# Altium schematic symbol library SCH - MCU - NUVOTON - NUVOTON NANO102ZB1AN.SchLib: 1 symbol
Pins are listed as number, name and electrical type; pins without a type are passive.

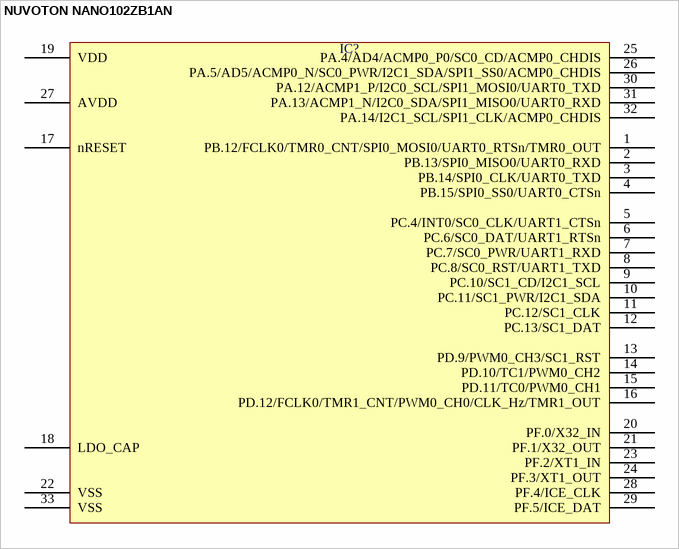
[diagram p0: symbol NUVOTON NANO102ZB1AN]

## NUVOTON NANO102ZB1AN
designator IC?  (value not drawn)
pins: 1 PB.12/FCLK0/TMR0_CNT/SPI0_MOSI0/UART0_RTSn/TMR0_OUT, 2 PB.13/SPI0_MISO0/UART0_RXD, 3 PB.14/SPI0_CLK/UART0_TXD, 4 PB.15/SPI0_SS0/UART0_CTSn, 5 PC.4/INT0/SC0_CLK/UART1_CTSn, 6 PC.6/SC0_DAT/UART1_RTSn, 7 PC.7/SC0_PWR/UART1_RXD, 8 PC.8/SC0_RST/UART1_TXD, 9 PC.10/SC1_CD/I2C1_SCL, 10 PC.11/SC1_PWR/I2C1_SDA, 11 PC.12/SC1_CLK, 12 PC.13/SC1_DAT, 13 PD.9/PWM0_CH3/SC1_RST, 14 PD.10/TC1/PWM0_CH2, 15 PD.11/TC0/PWM0_CH1, 16 PD.12/FCLK0/TMR1_CNT/PWM0_CH0/CLK_Hz/TMR1_OUT, 17 nRESET, 18 LDO_CAP, 19 VDD, 20 PF.0/X32_IN, 21 PF.1/X32_OUT, 22 VSS, 23 PF.2/XT1_IN, 24 PF.3/XT1_OUT, 25 PA.4/AD4/ACMP0_P0/SC0_CD/ACMP0_CHDIS, 26 PA.5/AD5/ACMP0_N/SC0_PWR/I2C1_SDA/SPI1_SS0/ACMP0_CHDIS, 27 AVDD, 28 PF.4/ICE_CLK, 29 PF.5/ICE_DAT, 30 PA.12/ACMP1_P/I2C0_SCL/SPI1_MOSI0/UART0_TXD, 31 PA.13/ACMP1_N/I2C0_SDA/SPI1_MISO0/UART0_RXD, 32 PA.14/I2C1_SCL/SPI1_CLK/ACMP0_CHDIS, 33 VSS